# Altium schematic symbol library DF-S.SchLib: 1 symbol
Pins are listed as number, name and electrical type; pins without a type are passive.

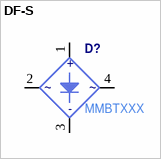
[diagram p0: symbol DF-S]

## DF-S
designator D?  Manufacturer Part Number: MMBTXXX  (hidden comment: DF-S)
pins: 1, 2, 3, 4
text: +; ~; -